# Altium footprint library SparkFun-Connectors.PCBLIB: 344 footprints (part 20 of 22)
Each footprint in its own frame and in the unit in brackets; x right, y up, seen from the top. Pads: shape width x height; smd on the part's side, far side on the other; paste and mask are expansions set on the pad; w line width, h text height; cw(c..) or ccw(c..) is an arc to the next point about the centre after c.
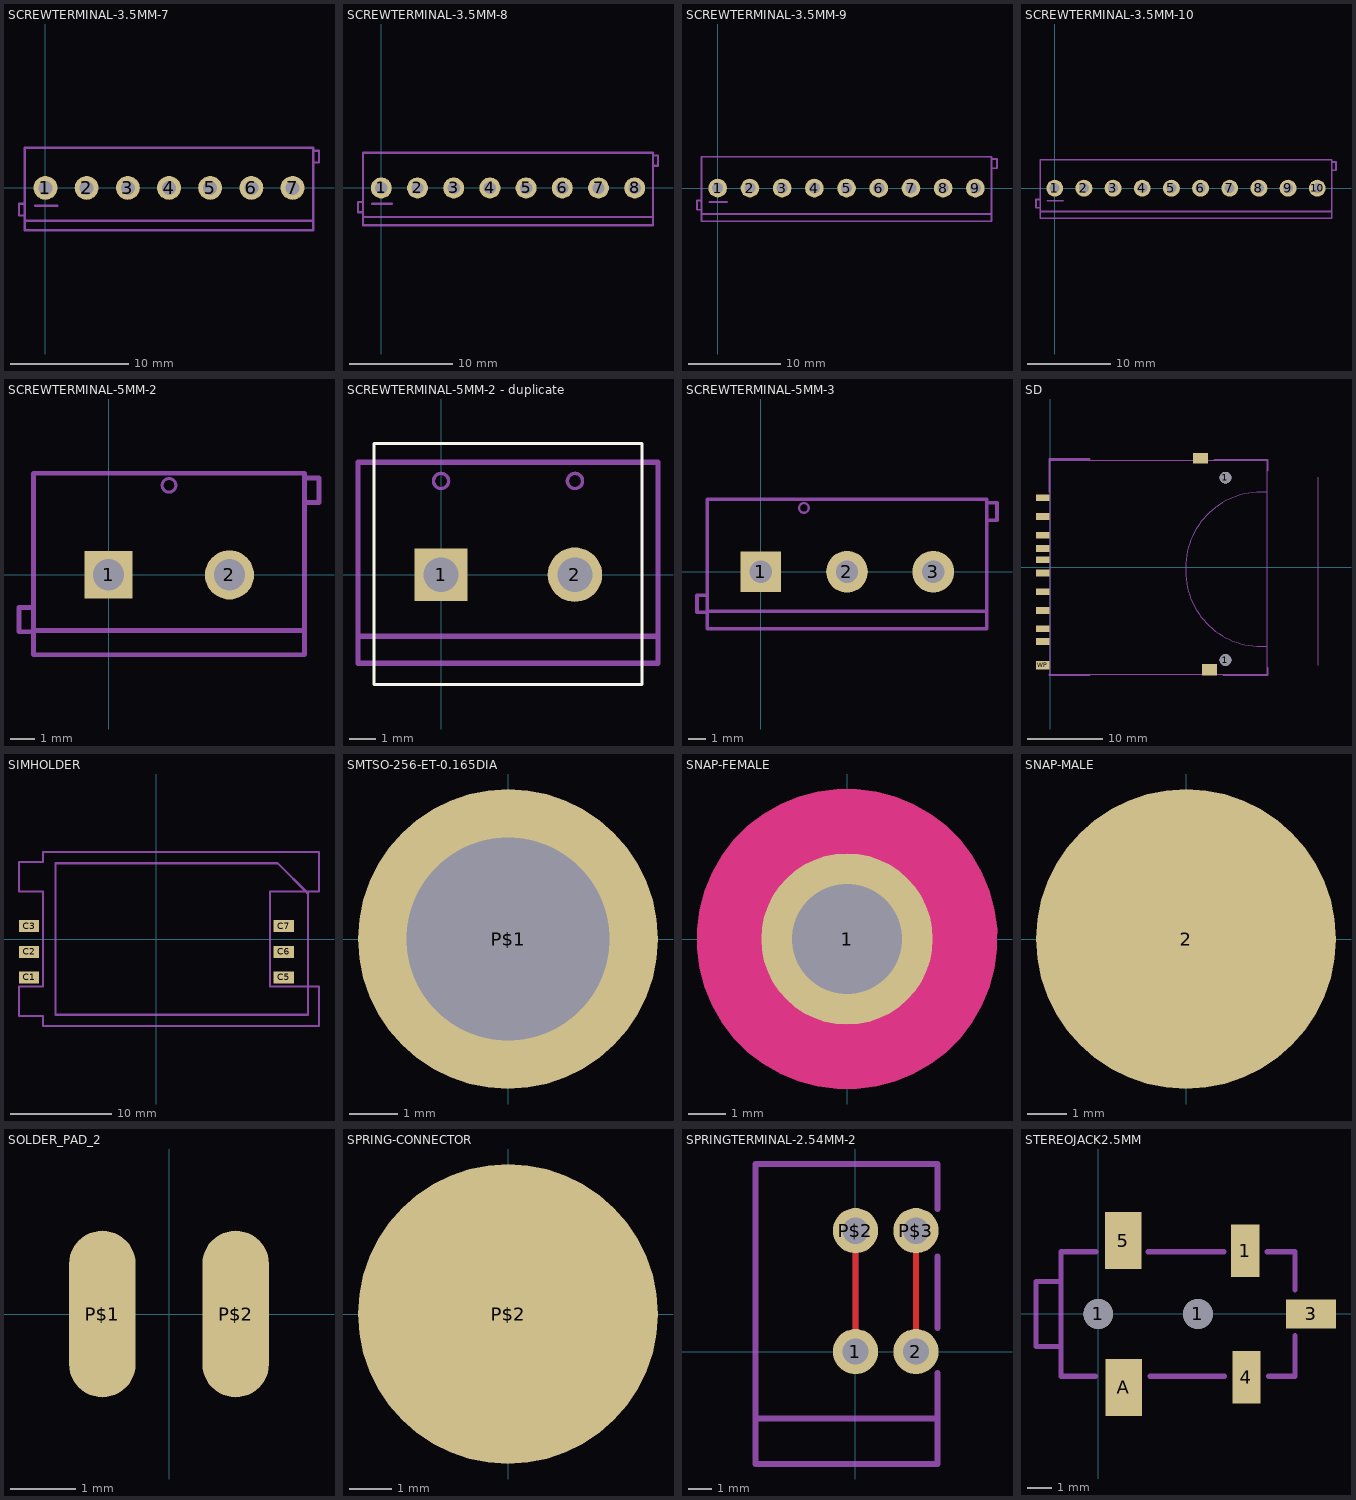
[diagram p19: the footprints below, top view; thin cyan lines are the x and y axes]

## SCREWTERMINAL-3.5MM-7 [mil]
pads (7):
  round 80 / inner round 60 / far side round 80 hole 47.24: 1(0,0) 2(137.8,0) 3(275.59,0) 4(413.39,0) 5(551.18,0) 6(688.98,0) 7(826.77,0)
Mechanical 8:
  lines w8: -68.9,-92.52 -88.58,-92.52 -88.58,-53.15 -68.9,-53.15 ; 895.67,84.65 915.35,84.65 915.35,124.02 895.67,124.02
Mechanical 22:
  lines w8: -35,-60 40,-60 ; -68.9,-110.24 -68.9,-141.73 895.67,-141.73 895.67,-110.24 ; -68.9,-110.24 -68.9,133.86 895.67,133.86 895.67,-110.24 ; -68.9,-110.24 895.67,-110.24
Mechanical 23:
  lines w8: -35,-60 40,-60

## SCREWTERMINAL-3.5MM-8 [mil]
pads (8):
  round 80 / inner round 60 / far side round 80 hole 47.24: 1(0,0) 2(137.8,0) 3(275.59,0) 4(413.39,0) 5(551.18,0) 6(688.98,0) 7(826.77,0) 8(964.57,0)
Mechanical 8:
  lines w8: -68.9,-92.52 -88.58,-92.52 -88.58,-53.15 -68.9,-53.15 ; 1033.46,84.65 1053.15,84.65 1053.15,124.02 1033.46,124.02
Mechanical 22:
  lines w8: -35,-60 40,-60 ; -68.9,-110.24 -68.9,-141.73 1033.46,-141.73 1033.46,-110.24 ; -68.9,-110.24 -68.9,133.86 1033.46,133.86 1033.46,-110.24 ; -68.9,-110.24 1033.46,-110.24
Mechanical 23:
  lines w8: -35,-60 40,-60

## SCREWTERMINAL-3.5MM-9 [mil]
pads (9):
  round 80 / inner round 60 / far side round 80 hole 47.24: 1(0,0) 2(137.8,0) 3(275.59,0) 4(413.39,0) 5(551.18,0) 6(688.98,0) 7(826.77,0) 8(964.57,0) 9(1102.36,0)
Mechanical 8:
  lines w8: -68.9,-92.52 -88.58,-92.52 -88.58,-53.15 -68.9,-53.15 ; 1175.2,84.65 1194.88,84.65 1194.88,124.02 1175.2,124.02
Mechanical 22:
  lines w8: -35,-60 40,-60 ; -68.9,-110.24 -68.9,-141.73 1171.26,-141.73 1171.26,-110.24 ; -68.9,-110.24 -68.9,133.86 1171.26,133.86 1171.26,-110.24 ; -68.9,-110.24 1171.26,-110.24
Mechanical 23:
  lines w8: -35,-60 40,-60

## SCREWTERMINAL-3.5MM-10 [mil]
pads (10):
  round 80 / inner round 60 / far side round 80 hole 47.24: 1(0,0) 2(137.8,0) 3(275.59,0) 4(413.39,0) 5(551.18,0) 6(688.98,0) 7(826.77,0) 8(964.57,0) 9(1102.36,0) 10(1240.16,0)
Mechanical 8:
  lines w8: -68.9,-92.52 -88.58,-92.52 -88.58,-53.15 -68.9,-53.15 ; 1309.06,84.65 1328.74,84.65 1328.74,124.02 1309.06,124.02
Mechanical 22:
  lines w8: -35,-60 40,-60 ; -68.9,-110.24 -68.9,-141.73 1309.06,-141.73 1309.06,-110.24 ; -68.9,-110.24 -68.9,133.86 1309.06,133.86 1309.06,-110.24 ; -68.9,-110.24 1309.06,-110.24
Mechanical 23:
  lines w8: -35,-60 40,-60

## SCREWTERMINAL-5MM-2 [mil]
pads (2):
  rect 77.46x77.46 / inner rect 60x60 / far side rect 77.46x77.46 hole 51.18: 1(0,0)
  round 80 / inner round 60 / far side round 80 hole 51.18: 2(196.85,0)
Mechanical 8:
  circle w5: c98.43,145.67 r11.13
  lines w8: -122.05,-92.52 -145.67,-92.52 -145.67,-53.15 -122.05,-53.15 ; 318.9,118.11 342.52,118.11 342.52,157.48 318.9,157.48
Mechanical 22:
  lines w8: -122.05,-90.55 -122.05,-129.92 318.9,-129.92 318.9,-90.55 ; -122.05,-90.55 -122.05,165.35 318.9,165.35 318.9,-90.55 ; -122.05,-90.55 318.9,-90.55

## SCREWTERMINAL-5MM-2 - duplicate [mil]
pads (2):
  rect 77.46x77.46 / inner rect 60x60 / far side rect 77.46x77.46 hole 51.18: 1(0,0)
  round 80 / inner round 60 / far side round 80 hole 51.18: 2(196.85,0)
Top Overlay:
  lines w3.94: -98.43,-161.42 -98.43,192.91 0,192.91 295.28,192.91 295.28,0 295.28,-161.42 0,-161.42 -98.43,-161.42
Mechanical 8:
  circle w5: c0,137.8 r11.13
  circle w5: c196.85,137.8 r11.13
Mechanical 22:
  lines w8: -122.05,-90.55 -122.05,-129.92 318.9,-129.92 318.9,-90.55 ; -122.05,-90.55 -122.05,165.35 318.9,165.35 318.9,-90.55 ; -122.05,-90.55 318.9,-90.55

## SCREWTERMINAL-5MM-3 [mil]
pads (3):
  rect 91.98x91.98 / inner rect 60x60 / far side rect 91.98x91.98 hole 51.18: 1(0,0)
  round 95 / inner round 60 / far side round 95 hole 51.18: 2(196.85,0) 3(393.7,0)
Mechanical 8:
  circle w5: c98.43,145.67 r11.13
  lines w8: -122.05,-92.52 -145.67,-92.52 -145.67,-53.15 -122.05,-53.15 ; 515.75,118.11 539.37,118.11 539.37,157.48 515.75,157.48
Mechanical 22:
  lines w8: -122.05,-90.55 -122.05,-129.92 515.75,-129.92 515.75,-90.55 ; -122.05,-90.55 -122.05,165.35 515.75,165.35 515.75,-90.55 ; -122.05,-90.55 515.75,-90.55

## SD [mm]
pads (15):
  rect 1.8x0.9 smd: 1(-1,6.77) 2(-1,4.27) 3(-1,2.52) 4(-1,-0.73) 5(-1,-3.23) 6(-1,-5.73) 7(-1,-8.15) 8(-1,-9.85) 9(-1,9.27) CD(-1,1.02)
  round 1.55 hole 1.55 unplated: 1(23.3,-12.32) 1(23.3,11.94)
  rect 2x1.4 smd: SH@1(20,14.496)
  rect 2x1.527 smd: SH@2(21.15,-13.589)
  rect 1.8x1.1 smd: WP(-1,-13)
Mechanical 8:
  lines w0.127: 35.6,-13 35.6,12 ; 28.8,-10.5 28.8,10 ; 28.8,-10.5 28.8,-14.25 0,-14.25 0,14.25 28.8,14.25 28.8,10 ; 28.8,-10.5 28,-10.5 cw(c28,-0.5) 18,-0.5 18,0 cw(c28,0) 28,10 28.8,10
Mechanical 22:
  lines w0.254: -0.095,-14.238 -0.095,-14.327 5.239,-14.327 ; -0.095,10.019 -0.095,14.418 5.239,14.418 ; 21.849,14.318 28.888,14.318 28.9,12.9 ; 23.011,-14.327 28.888,-14.327 28.888,-13.349

## SIMHOLDER [mm]
pads (6):
  rect 2x1.2 smd: C1(-12.61,-3.81) C2(-12.61,-1.27) C3(-12.61,1.27) C5(12.61,-3.81) C6(12.61,-1.27) C7(12.61,1.27)
Mechanical 8:
  lines w0.203: -10,-7.5 -10,7.5 12,7.5 15,4.5 15,-7.5 -10,-7.5
Mechanical 22:
  lines w0.203: -13.61,-7.625 -13.61,-4.7 -11.25,-4.7 -11.25,4.7 -13.61,4.7 -13.61,7.625 -11.25,7.625 -11.25,8.6 16.09,8.6 16.09,4.7 11.25,4.7 11.25,-4.7 16.09,-4.7 16.09,-8.6 -11.25,-8.6 -11.25,-7.625 -13.61,-7.625

## SMTSO-256-ET-0.165DIA [mil]
pads (1):
  round 244 / inner round 60 / far side round 244 hole 165: P$1(0,0)
Top Paste:
  lines w40: -90,-40 ccw(c0,0) -40,-90 ; -90,40 cw(c0,0) -40,90 ; 40,-90 ccw(c0,0) 90,-40 ; 40,90 cw(c0,0) 90,40
Mechanical 8:
  circle w5: c0,0 r40

## SNAP-FEMALE [mil]
pads (1):
  round 180 / inner round 60 / far side round 180 hole 115: 1(0,0)
Top Layer:
  region: -157.5,0 -157.5,10.32 -154.8,30.79 -149.46,50.73 -141.56,69.81 -131.24,87.69 -118.67,104.07 -104.07,118.67 -87.69,131.24 -69.81,141.56 -50.73,149.46 -30.79,154.8 -10.32,157.5 0,157.5 10.32,157.5 30.79,154.81 50.74,149.46 69.81,141.56 87.69,131.24 104.07,118.67 118.67,104.07 131.24,87.69 141.56,69.81 149.46,50.74 154.81,30.79 157.5,10.32 157.5,0 157.5,-10.32 154.8,-30.79 149.46,-50.73 141.56,-69.81 131.24,-87.69 118.67,-104.07 104.07,-118.67 87.69,-131.24 69.81,-141.56 50.73,-149.46 30.79,-154.8 10.32,-157.5 0,-157.5 -10.32,-157.5 -30.79,-154.8 -50.73,-149.46 -69.81,-141.56 -87.69,-131.24 -104.07,-118.67 -118.67,-104.07 -131.24,-87.69 -141.56,-69.81 -149.46,-50.73 -154.8,-30.79 -157.5,-10.32
Top Layer keep-out:
  region: -157.5,0 -157.5,10.32 -154.8,30.79 -149.46,50.73 -141.56,69.81 -131.24,87.69 -118.67,104.07 -104.07,118.67 -87.69,131.24 -69.81,141.56 -50.73,149.46 -30.79,154.8 -10.32,157.5 0,157.5 10.32,157.5 30.79,154.81 50.74,149.46 69.81,141.56 87.69,131.24 104.07,118.67 118.67,104.07 131.24,87.69 141.56,69.81 149.46,50.74 154.81,30.79 157.5,10.32 157.5,0 157.5,-10.32 154.8,-30.79 149.46,-50.73 141.56,-69.81 131.24,-87.69 118.67,-104.07 104.07,-118.67 87.69,-131.24 69.81,-141.56 50.73,-149.46 30.79,-154.8 10.32,-157.5 0,-157.5 -10.32,-157.5 -30.79,-154.8 -50.73,-149.46 -69.81,-141.56 -87.69,-131.24 -104.07,-118.67 -118.67,-104.07 -131.24,-87.69 -141.56,-69.81 -149.46,-50.73 -154.8,-30.79 -157.5,-10.32
Top Paste:
  region: -157.5,0 -157.5,10.32 -154.8,30.79 -149.46,50.73 -141.56,69.81 -131.24,87.69 -118.67,104.07 -104.07,118.67 -87.69,131.24 -69.81,141.56 -50.73,149.46 -30.79,154.8 -10.32,157.5 0,157.5 10.32,157.5 30.79,154.81 50.74,149.46 69.81,141.56 87.69,131.24 104.07,118.67 118.67,104.07 131.24,87.69 141.56,69.81 149.46,50.74 154.81,30.79 157.5,10.32 157.5,0 157.5,-10.32 154.8,-30.79 149.46,-50.73 141.56,-69.81 131.24,-87.69 118.67,-104.07 104.07,-118.67 87.69,-131.24 69.81,-141.56 50.73,-149.46 30.79,-154.8 10.32,-157.5 0,-157.5 -10.32,-157.5 -30.79,-154.8 -50.73,-149.46 -69.81,-141.56 -87.69,-131.24 -104.07,-118.67 -118.67,-104.07 -131.24,-87.69 -141.56,-69.81 -149.46,-50.73 -154.8,-30.79 -157.5,-10.32
Top Solder:
  region: -157.5,0 -157.5,10.32 -154.81,30.79 -149.46,50.74 -141.56,69.81 -131.24,87.69 -118.67,104.07 -104.07,118.67 -87.69,131.24 -69.81,141.56 -50.74,149.46 -30.79,154.81 -10.32,157.5 0,157.5 10.32,157.5 30.79,154.81 50.74,149.46 69.81,141.56 87.69,131.24 104.07,118.67 118.67,104.07 131.24,87.69 141.56,69.81 149.46,50.74 154.81,30.79 157.5,10.32 157.5,0 157.5,-10.32 154.8,-30.79 149.46,-50.73 141.56,-69.81 131.24,-87.69 118.67,-104.07 104.07,-118.67 87.69,-131.24 69.81,-141.56 50.73,-149.46 30.79,-154.8 10.32,-157.5 0,-157.5 -10.32,-157.5 -30.79,-154.8 -50.73,-149.46 -69.81,-141.56 -87.69,-131.24 -104.07,-118.67 -118.67,-104.07 -131.24,-87.69 -141.56,-69.81 -149.46,-50.73 -154.8,-30.79 -157.5,-10.32

## SNAP-MALE [mil]
pads (1):
  rrect100% 300x300 smd: 2(0,0)

## SOLDER_PAD_2 [mil]
pads (2):
  rrect100% 40x100 smd paste+0: P$1(-40,0) P$2(40,0)

## SPRING-CONNECTOR [mil]
pads (1):
  rrect100% 280x280 smd: P$2(0,0)

## SPRINGTERMINAL-2.54MM-2 [mil]
pads (4):
  round 74.8 / inner round 60 / far side round 74.8 hole 43.31: 1(0,0) 2(100,0) P$2(0,200) P$3(100,200)
Top Layer:
  lines w10: 0,0 0,200 ; 100,0 100,200
Bottom Layer:
  lines w10: 0,0 0,200 ; 100,0 100,200
Mechanical 8:
  lines w10: -165.35,-110.24 -165.35,-185.83 135.43,-185.83 135.43,-110.24
Mechanical 22:
  lines w10: 135.43,-35.43 135.43,-110.24 -165.35,-110.24 -165.35,310.24 135.43,310.24 135.43,236.22 ; 135.43,39.37 135.43,157.48

## STEREOJACK2.5MM [mm]
pads (7):
  round 1.2 hole 1.2 unplated: 1(0,0) 1(4,0)
  rect 1.145x2.1 smd: 1(5.898,2.54)
  rect 1.998x1.17 smd: 3(8.55,0)
  rect 1.119x2.1 smd: 4(5.949,-2.54)
  rect 1.467x2.3 smd: 5(1,2.951) A(1.016,-2.951)
Mechanical 22:
  lines w0.203: -0.121,-2.5 -1.5,-2.5 -1.5,-1.3 ; -0.096,2.5 -1.5,2.5 -1.5,1.3 ; 1.996,2.5 5.052,2.5 ; 2.073,-2.5 5.077,-2.5 ; 6.773,2.5 7.9,2.5 7.9,0.974 ; 6.848,-2.5 7.9,-2.5 7.9,-0.873 ; -1.5,-1.3 -1.5,1.3 ; -1.5,-1.3 -2.5,-1.3 -2.5,1.3 -1.5,1.3